# EAGLE library part PAM8302A_BREAKOUT (library adafruit_breakout_boards)
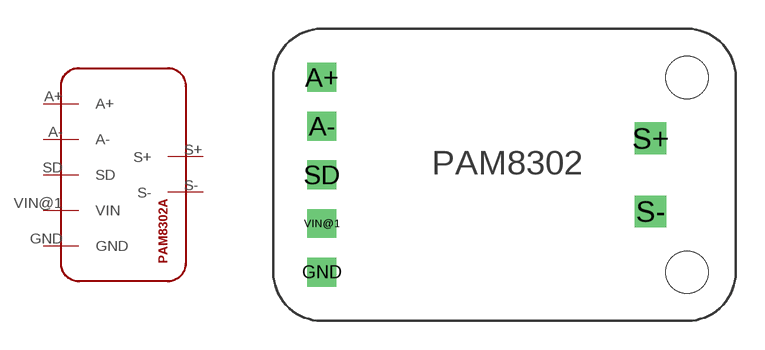
[diagram p2: symbol with the pads of PAM8302A_BREAKOUT; footprint PAM8302A_BREAKOUT]

Designator prefix -

## PAM8302A_BREAKOUT  [PAM8302A_BREAKOUT]
A+  A+
A-  A-
GND  GND  in
S+  S+
S-  S-
SD  SD
VIN@1  VIN  in

## Footprint PAM8302A_BREAKOUT (pad centres in mm)
drill 1 square: A+ -9.525,5.08; A- -9.525,2.54; GND -9.525,-5.08; SD -9.525,0; VIN@1 -9.525,-2.54
drill 1.1 square: S+ 7.62,1.905; S- 7.62,-1.905
hole 2.2 at 9.525,5.08
hole 2.2 at 9.525,-5.08